# EAGLE library part M20-8760342R (library SamacSys_Parts)
2.54mm (0.1") Pitch DIL SMT Pin Header, selective gold + tin, pick & place (Tape & Reel packing), 3+3 contacts Source: Datasheet <https://cdn.harwin.com/pdfs/M20-876R.pdf>
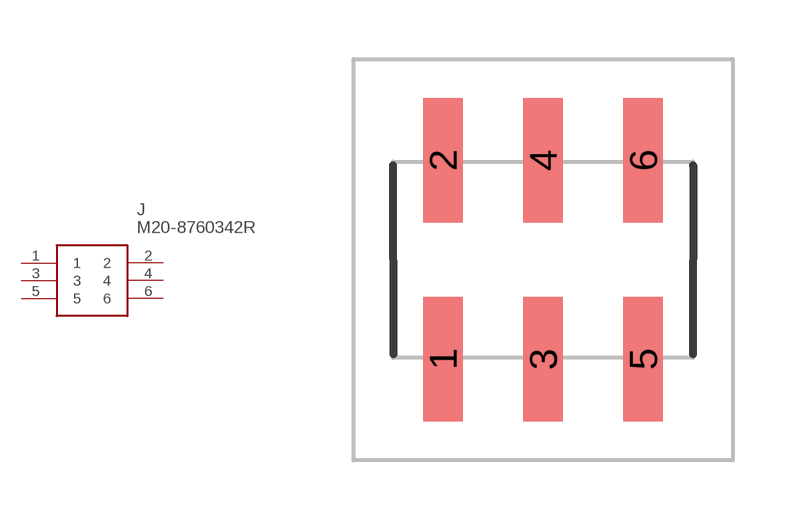
[diagram p2: symbol with the pads of M208760342R; footprint M208760342R]

Designator prefix J

## M20-8760342R (DESCRIPTION: 2.54mm (0.1") Pitch DIL SMT Pin Header, selective gold + tin, pick & place (Tape & Reel packing), 3+3 contacts; HEIGHT: 11.5mm; MANUFACTURER_NAME: Harwin; MANUFACTURER_PART_NUMBER: M20-8760342R; MOUSER_PART_NUMBER: 855-M20-8760342R; MOUSER_PRICE-STOCK: https://www.mouser.co.uk/ProductDetail/Harwin/M20-8760342R?qs=vF78I%252BjhbY%2F5VOL01aBOqA%3D%3D)  [M208760342R]
1  1
2  2
3  3
4  4
5  5
6  6

## Footprint M208760342R (pad centres in mm)
M20-8760342R-3
smd 1 x 3.15: 1 -2.54,-2.525; 2 -2.54,2.525; 3 0,-2.525; 4 0,2.525; 5 2.54,-2.525; 6 2.54,2.525